# Altium footprint library H10R7.PcbLib: 22 footprints (part 2 of 2)
Each footprint in its own frame and in the unit in brackets; x right, y up, seen from the top. Pads: shape width x height; smd on the part's side, far side on the other; paste and mask are expansions set on the pad; w line width, h text height; cw(c..) or ccw(c..) is an arc to the next point about the centre after c.
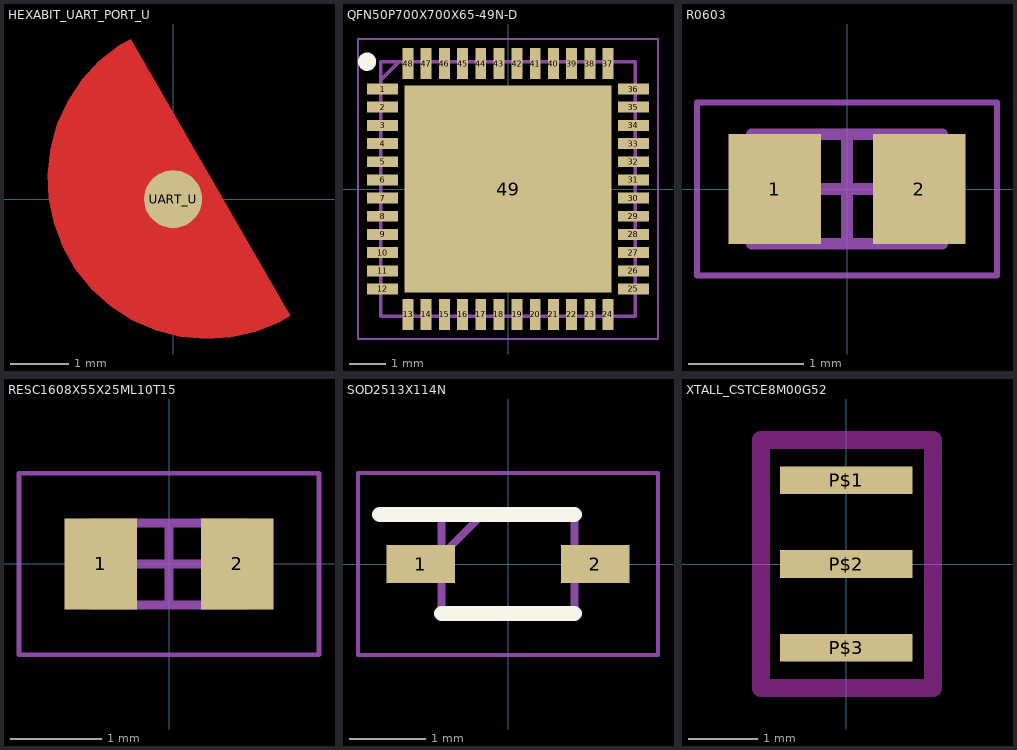
[diagram p1: the footprints below, top view; thin cyan lines are the x and y axes]

## HEXABIT_UART_PORT_U [mm]
pads (1):
  rrect100% 1x1 smd paste+0: UART_U(0,0)
Top Layer:
  region: 2.018,-2.008 1.83,-2.121 1.424,-2.285 0.997,-2.382 0.559,-2.41 0.123,-2.369 -0.301,-2.259 -0.702,-2.084 -1.071,-1.847 -1.398,-1.555 -1.674,-1.215 -1.893,-0.835 -2.049,-0.426 -2.138,0.003 -2.159,0.441 -2.11,0.876 -1.992,1.298 -1.81,1.696 -1.566,2.061 -1.268,2.382 -0.923,2.652 -0.731,2.758
Top Solder:
  region: 1.518,-1.138 1.369,-1.23 1.04,-1.351 0.693,-1.405 0.343,-1.388 0.003,-1.302 -0.314,-1.151 -0.593,-0.94 -0.826,-0.677 -1.001,-0.373 -1.113,-0.041 -1.157,0.307 -1.13,0.657 -1.035,0.994 -0.874,1.306 -0.655,1.58 -0.386,1.804 -0.232,1.888

## QFN50P700X700X65-49N-D [mm]
pads (49):
  rect 0.85x0.3 smd mask+0: 1(-3.45,2.75) 2(-3.45,2.25) 3(-3.45,1.75) 4(-3.45,1.25) 5(-3.45,0.75) 6(-3.45,0.25) 7(-3.45,-0.25) 8(-3.45,-0.75) 9(-3.45,-1.25) 10(-3.45,-1.75) 11(-3.45,-2.25) 12(-3.45,-2.75) 25(3.45,-2.75) 26(3.45,-2.25) 27(3.45,-1.75) 28(3.45,-1.25) 29(3.45,-0.75) 30(3.45,-0.25) 31(3.45,0.25) 32(3.45,0.75) 33(3.45,1.25) 34(3.45,1.75) 35(3.45,2.25) 36(3.45,2.75)
  rect 0.3x0.85 smd mask+0: 13(-2.75,-3.45) 14(-2.25,-3.45) 15(-1.75,-3.45) 16(-1.25,-3.45) 17(-0.75,-3.45) 18(-0.25,-3.45) 19(0.25,-3.45) 20(0.75,-3.45) 21(1.25,-3.45) 22(1.75,-3.45) 23(2.25,-3.45) 24(2.75,-3.45) 37(2.75,3.45) 38(2.25,3.45) 39(1.75,3.45) 40(1.25,3.45) 41(0.75,3.45) 42(0.25,3.45) 43(-0.25,3.45) 44(-0.75,3.45) 45(-1.25,3.45) 46(-1.75,3.45) 47(-2.25,3.45) 48(-2.75,3.45)
  rect 5.7x5.7 smd mask+0: 49(0,0)
Top Overlay:
  circle w0.25: c-3.875,3.5 r0.125
Mechanical 13:
  lines w0.1: -3.5,3 -3,3.5 ; -3.5,-3.5 3.5,-3.5 3.5,3.5 -3.5,3.5 -3.5,-3.5
Mechanical 15:
  lines w0.05: -4.125,-4.125 4.125,-4.125 4.125,4.125 -4.125,4.125 -4.125,-4.125
3D body "STM32G0B1CEU6.stp": height 0.61, standoff 0, extent -3.556,-3.556 3.556,3.556

## R0603 [mm]
pads (2):
  rect 0.8x0.95 smd: 1(-0.625,0) 2(0.625,0)
Mechanical 13:
  lines w0.1: -0.825,-0.475 -0.825,0.475 0.825,0.475 0.825,-0.475 -0.825,-0.475
Mechanical 15:
  lines w0.05: -1.3,-0.75 -1.3,0.75 1.3,0.75 1.3,-0.75 -1.3,-0.75
  lines w0.1: -0.475,0 0.475,0 ; 0,-0.475 0,0.475
3D body: height 0.5, standoff 0, extent -0.525,-0.475 0.525,0.475
3D body: height 0.5, standoff 0, extent -0.825,-0.475 -0.525,0.475
3D body: height 0.5, standoff 0, extent 0.525,-0.475 0.825,0.475

## RESC1608X55X25ML10T15 [mm]
pads (2):
  rect 0.8x1 smd: 1(-0.75,0) 2(0.75,0)
Mechanical 13:
  lines w0.1: -0.85,-0.45 -0.85,0.45 0.85,0.45 0.85,-0.45 -0.85,-0.45
Mechanical 15:
  lines w0.05: -1.65,-1 -1.65,1 1.65,1 1.65,-1 -1.65,-1
  lines w0.1: -0.45,0 0.45,0 ; 0,-0.45 0,0.45
3D body "RESC1608X06N.step": height 0.55, standoff 0, extent -0.85,-0.45 0.85,0.45

## SOD2513X114N [mm]
pads (2):
  rect 0.9x0.5 smd: 1(-1.15,0) 2(1.15,0)
Top Overlay:
  lines w0.2: -1.688,0.65 0.875,0.65 ; -0.875,-0.65 0.875,-0.65
Top Courtyard:
  lines w0.05: -1.975,-1.2 1.975,-1.2 1.975,1.2 -1.975,1.2 -1.975,-1.2
Top 3D Body:
  lines w0.1: -0.875,0.112 -0.338,0.65 ; -0.875,-0.65 0.875,-0.65 0.875,0.65 -0.875,0.65 -0.875,-0.65
3D body "CDSOD323-T03SC.stp": height 1.14, standoff 0, extent -1.272,-0.65 1.272,0.65

## XTALL_CSTCE8M00G52 [mm]
pads (3):
  rect 1.9x0.4 smd: P$1(0,1.2) P$2(0,0) P$3(0,-1.2)
Top Layer keep-out:
  lines w0.254: -1.219,-1.778 1.245,-1.778 1.245,1.778 -1.219,1.778 -1.219,-1.778
3D body "CSTCE8M00G52Z-R0.STEP": height 0.8, standoff 0, extent -0.665,-1.6 0.635,1.6